# Altium footprint library PCB - CONNECTOR - HARWIN M50-3120445.PCBLIB: 1 footprints
Each footprint in its own frame and in the unit in brackets; x right, y up, seen from the top. Pads: shape width x height; smd on the part's side, far side on the other; paste and mask are expansions set on the pad; w line width, h text height; cw(c..) or ccw(c..) is an arc to the next point about the centre after c.
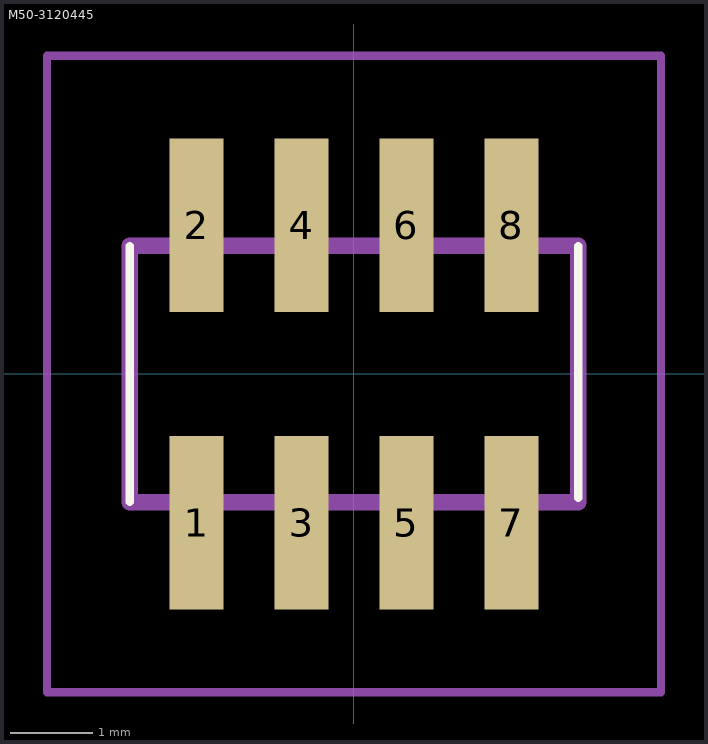
[diagram p0: the footprint, top view; thin cyan lines are the x and y axes]

## M50-3120445 [mm]
pads (8):
  rect 0.65x2.1 smd: 1(-1.905,-1.8) 2(-1.905,1.8) 3(-0.635,-1.8) 4(-0.635,1.8) 5(0.635,-1.8) 6(0.635,1.8) 7(1.905,-1.8) 8(1.905,1.8)
Top Overlay:
  lines w0.1: -2.715,-1.55 -2.715,1.55 ; 2.715,-1.5 2.715,1.55
Top Assembly:
  lines w0.2: -2.715,-1.55 2.715,-1.55 2.715,1.55 -2.715,1.55 -2.715,-1.55
  text ".Designator" at -1.778,-0.508 h1.52
Top Courtyard (Mech7):
  lines w0.1: -3.715,-3.85 3.715,-3.85 3.715,3.85 -3.715,3.85 -3.715,-3.85
3D body "M50-3120445.stp": height 3.6, standoff 0, extent -2.715,-2.25 2.715,2.25